# EAGLE library part PYCOM-S01-OEM (library PYCOM-OEM)
Pycom SiPy Module with Sigfox, dual Bluetooth, WiFi based upon an ESP32 from Espressif
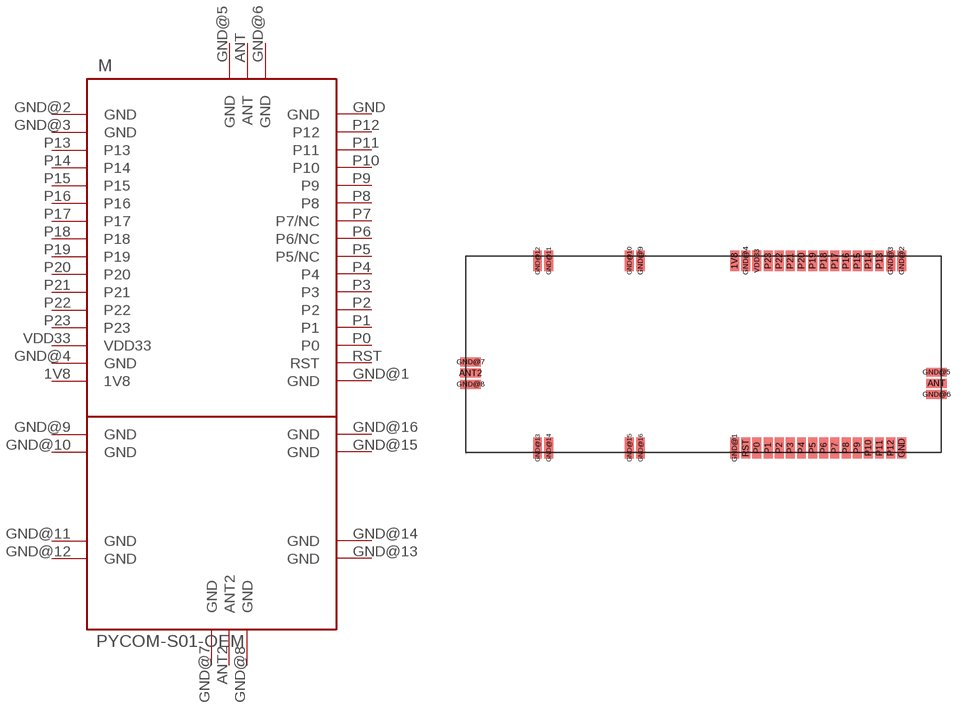
[diagram p2: symbol with the pads of S01_OEM; footprint S01_OEM]

Designator prefix M

## PYCOM-S01-OEM  [S01_OEM]
1V8  1V8
ANT  ANT
ANT2  ANT2
GND  GND
GND@1  GND
GND@2  GND
GND@3  GND
GND@4  GND
GND@5  GND
GND@6  GND
GND@7  GND
GND@8  GND
GND@9  GND
GND@10  GND
GND@11  GND
GND@12  GND
GND@13  GND
GND@14  GND
GND@15  GND
GND@16  GND
P0  P0
P1  P1
P2  P2
P3  P3
P4  P4
P5  P5/NC
P6  P6/NC
P7  P7/NC
P8  P8
P9  P9
P10  P10
P11  P11
P12  P12
P13  P13
P14  P14
P15  P15
P16  P16
P17  P17
P18  P18
P19  P19
P20  P20
P21  P21
P22  P22
P23  P23
RST  RST
VDD33  VDD33

## Footprint S01_OEM (pad centres in mm)
Pycom SiPy PCB Footprint
smd 0.8 x 1.85: 1V8 24.13,17.225; GND 39.13,0.425; GND@1 24.13,0.425; GND@2 39.13,17.225; GND@3 38.13,17.225; GND@4 25.13,17.225; GND@9 15.68,17.225; GND@10 14.68,17.225; GND@11 7.44,17.225; GND@12 6.44,17.225; GND@13 6.44,0.425; GND@14 7.44,0.425; GND@15 14.68,0.425; GND@16 15.68,0.425; P0 26.13,0.425; P1 27.13,0.425; P2 28.13,0.425; P3 29.13,0.425; P4 30.13,0.425; P5 31.13,0.425; P6 32.13,0.425; P7 33.13,0.425; P8 34.13,0.425; P9 35.13,0.425; P10 36.13,0.425; P11 37.13,0.425; P12 38.13,0.425; P13 37.13,17.225; P14 36.13,17.225; P15 35.13,17.225; P16 34.13,17.225; P17 33.13,17.225; P18 32.13,17.225; P19 31.13,17.225; P20 30.13,17.225; P21 29.13,17.225; P22 28.13,17.225; P23 27.13,17.225; RST 25.13,0.425; VDD33 26.13,17.225
smd 1.85 x 0.8: ANT 42.245,6.22; ANT2 0.425,7.137; GND@5 42.245,7.22; GND@6 42.245,5.22; GND@7 0.425,8.134; GND@8 0.425,6.137